# Altium schematic symbol library STMicro_PowerManagement.SchLib: 2 symbols
Pins are listed as number, name and electrical type; pins without a type are passive.

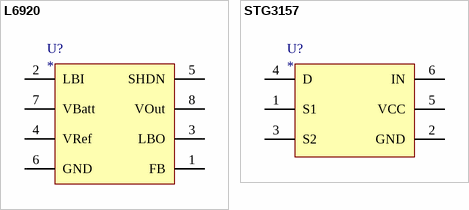
[diagram p0: symbols L6920 to STG3157]

## L6920
designator U?
ST Micro L6920 Synchronous Step-Up DC-DC Converter
pins: 1 FB, 2 LBI, 3 LBO, 4 VRef, 5 SHDN, 6 GND, 7 VBatt, 8 VOut

## STG3157
designator U?
ST Micro STG3157 Low Voltage SPDT Logic Switch
pins: 1 S1, 2 GND, 3 S2, 4 D, 5 VCC, 6 IN